# Altium schematic symbol library Resistor GOST.SchLib: 22 symbols
Pins are listed as number, name and electrical type; pins without a type are passive.

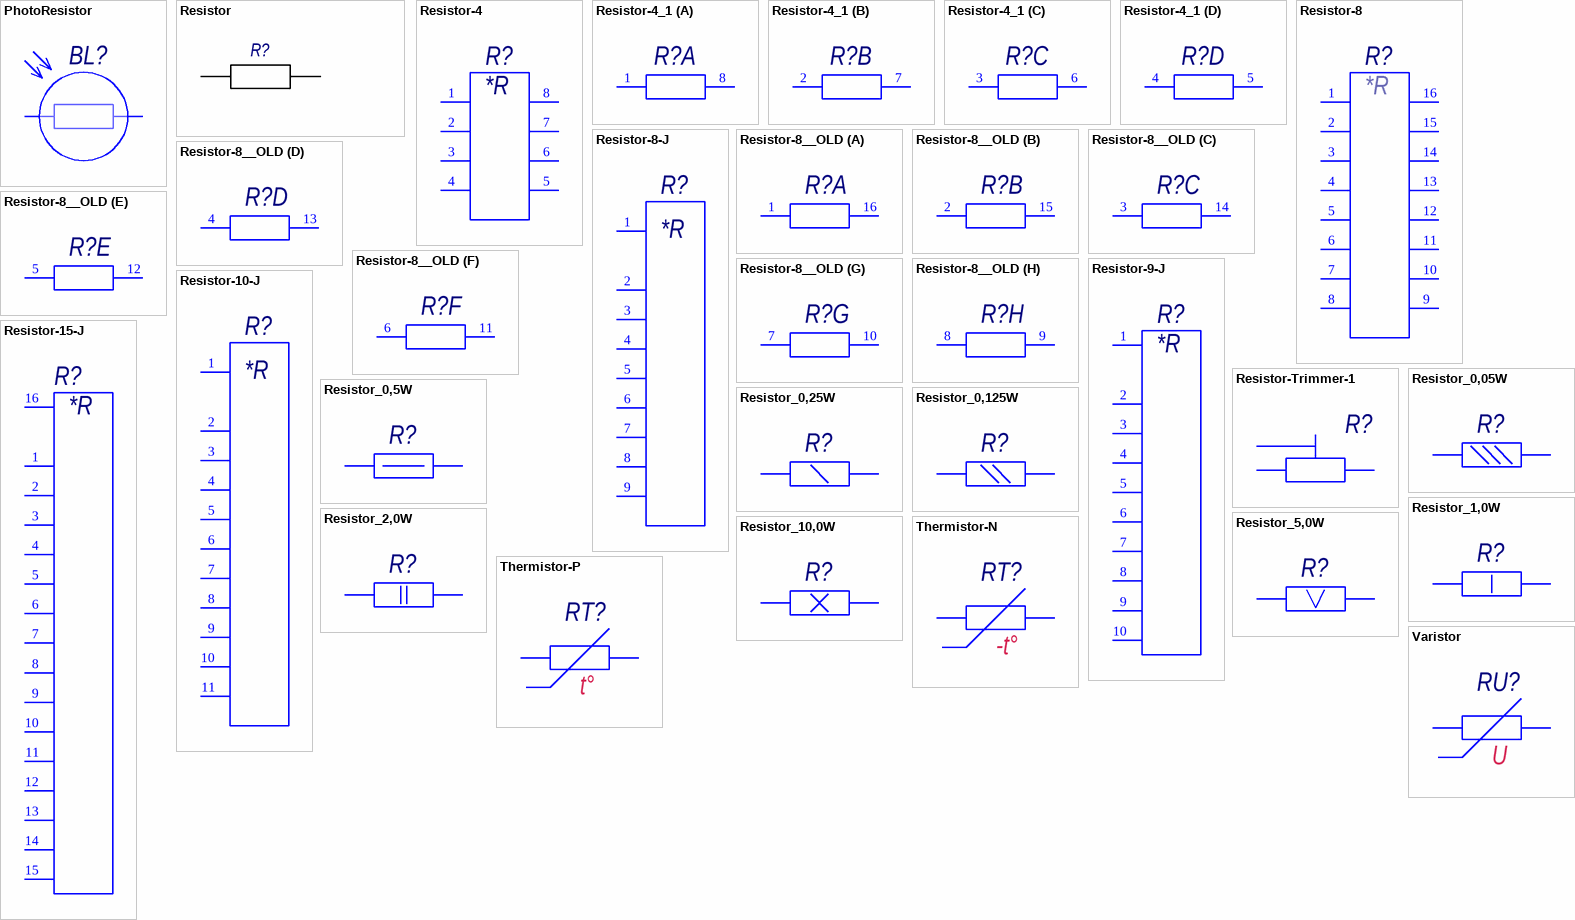
[diagram p0: symbols PhotoResistor to Varistor]

## PhotoResistor
designator BL?
Published: 08.08.2015; Publisher: Andrew Danich; Type: Фотоэлемент
pins: 1, 2

## Resistor
designator R?  value Ом
pins: 1, 2

## Resistor-4
designator R?
Published: 15.07.2014; Publisher: Andrew Danich; Type: Набор резисторов
pins: 1, 2, 3, 4, 5, 6, 7, 8
text: *R

## Resistor-4_1
designator R?
Published: 15.07.2014; Publisher: Andrew Danich; Type: Набор резисторов
part A pins: 1, 8
part B pins: 2, 7
part C pins: 3, 6
part D pins: 4, 5

## Resistor-8
designator R?
Published: 10.05.2013; Publisher: Andrew Danich; Type: Набор резисторов
pins: 1, 2, 3, 4, 5, 6, 7, 8, 9, 10, 11, 12, 13, 14, 15, 16
text: *R

## Resistor-8-J
designator R?
Published: 15.08.2013; Publisher: Andrew Danich; Type: Набор резисторов
pins: 1, 2, 3, 4, 5, 6, 7, 8, 9
text: *R

## Resistor-8__OLD
designator R?
Published: 10.05.2013; Publisher: Andrew Danich; Type: Набор резисторов
part A pins: 1, 16
part B pins: 2, 15
part C pins: 3, 14
part D pins: 4, 13
part E pins: 5, 12
part F pins: 6, 11
part G pins: 7, 10
part H pins: 8, 9

## Resistor-9-J
designator R?
Published: 15.08.2013; Publisher: Andrew Danich; Type: Набор резисторов
pins: 1, 2, 3, 4, 5, 6, 7, 8, 9, 10
text: *R

## Resistor-10-J
designator R?
Published: 15.08.2013; Publisher: Andrew Danich; Type: Набор резисторов
pins: 1, 2, 3, 4, 5, 6, 7, 8, 9, 10, 11
text: *R

## Resistor-15-J
designator R?
Published: 15.08.2013; Publisher: Andrew Danich; Type: Набор резисторов
pins: 1, 2, 3, 4, 5, 6, 7, 8, 9, 10, 11, 12, 13, 14, 15, 16
text: *R

## Resistor-Trimmer-1
designator R?
Publisher: Andrew Danich; Type: Подстроечный резистор; Published: 27.07.2015
pins: 1, 2, 3

## Resistor_0,05W
designator R?
Published: 19.09.2014; Publisher: Andrew Danich; Type: Резистор
pins: 1, 2

## Resistor_0,5W
designator R?
Published: 19.09.2014; Publisher: Andrew Danich; Type: Резистор
pins: 1, 2

## Resistor_0,25W
designator R?
Published: 19.09.2014; Publisher: Andrew Danich; Type: Резистор
pins: 1, 2

## Resistor_0,125W
designator R?
Published: 19.09.2014; Publisher: Andrew Danich; Type: Резистор
pins: 1, 2

## Resistor_1,0W
designator R?
Published: 19.09.2014; Publisher: Andrew Danich; Type: Резистор
pins: 1, 2

## Resistor_2,0W
designator R?
Published: 19.09.2014; Publisher: Andrew Danich; Type: Резистор
pins: 1, 2

## Resistor_5,0W
designator R?
Published: 19.09.2014; Publisher: Andrew Danich; Type: Резистор
pins: 1, 2

## Resistor_10,0W
designator R?
Published: 19.09.2014; Publisher: Andrew Danich; Type: Резистор
pins: 1, 2

## Thermistor-N
designator RT?
Published: 27.05.2015; Publisher: Andrew Danich; Type: Термистор
pins: 1, 2
text: -t°

## Thermistor-P
designator RT?
Published: 27.05.2015; Publisher: Andrew Danich; Type: Термистор
pins: 1, 2
text: t°

## Varistor
designator RU?
Published: 27.07.2015; Publisher: Andrew Danich; Type: Варистор
pins: 1, 2
text: U